# Altium schematic symbol library CRCW120610K0FKEB.schlib: 1 symbol
Pins are listed as number, name and electrical type; pins without a type are passive.

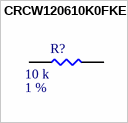
[diagram p0: symbol CRCW120610K0FKEB]

## CRCW120610K0FKEB
designator R?  Tolerance: 1 %  Resistance: 10 k  (hidden comment: CRCW120610K0FKEB)
Thick Film Resistors - SMD 1/4watt 10Kohms 1%; Mfr: Vishay / Dale; Qualifications: Automotive Grade; Power Rating: 1/4W; ComponentLink1Description: Datasheet; ComponentLink1URL: https://www.mouser.ca/datasheet/2/427/dcrcwe3-1762152.pdf; Footprint: RES1206; Mfr #: CRCW120610K0FKEB; Package: 1206; Supplier 1: Digi-Key; Supplier Part Number 1: 541-CRCW120610K0FKEBCT-ND
footprint RES1206 (Generic 1206 PCB Footprint)
pins: 1, 2